# Altium footprint library PCB2.PcbLib: 17 footprints (part 1 of 2)
Each footprint in its own frame and in the unit in brackets; x right, y up, seen from the top. Pads: shape width x height; smd on the part's side, far side on the other; paste and mask are expansions set on the pad; w line width, h text height; cw(c..) or ccw(c..) is an arc to the next point about the centre after c.
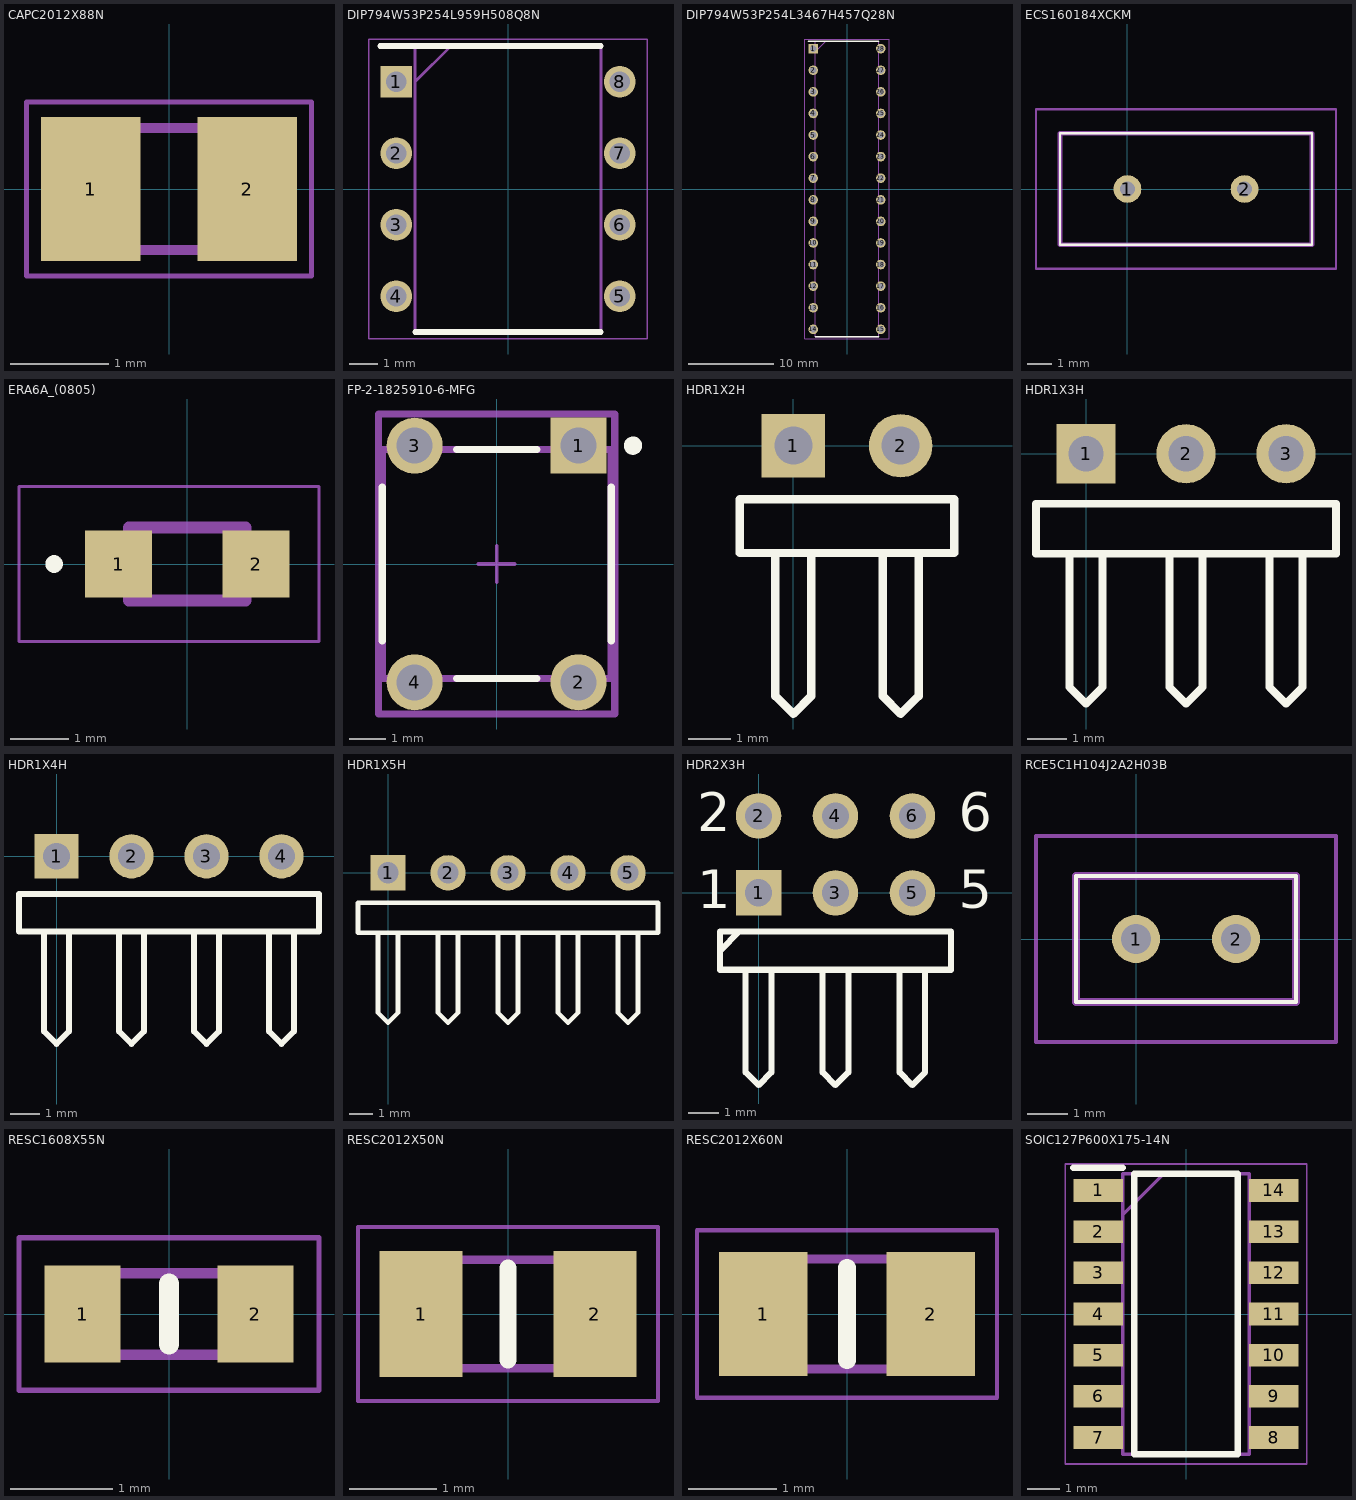
[diagram p0: the footprints below, top view; thin cyan lines are the x and y axes]

## CAPC2012X88N [mm]
pads (2):
  rect 1.02x1.47 smd: 1(-0.8,0) 2(0.8,0)
Mechanical 13:
  lines w0.1: -1,-0.625 -1,0.625 1,0.625 1,-0.625 -1,-0.625
Mechanical 15:
  lines w0.05: -1.46,-0.89 -1.46,0.89 1.46,0.89 1.46,-0.89 -1.46,-0.89
3D body "C0805C104K8RACAUTO.stp": height 0.88, standoff 0, extent -1,-0.625 1,0.625

## DIP794W53P254L959H508Q8N [mm]
pads (8):
  rect 1.13x1.13 hole 0.73: 1(-3.97,3.81)
  round 1.13 hole 0.73: 2(-3.97,1.27) 3(-3.97,-1.27) 4(-3.97,-3.81) 5(3.97,-3.81) 6(3.97,-1.27) 7(3.97,1.27) 8(3.97,3.81)
Top Overlay:
  lines w0.2: -4.535,5.08 3.3,5.08 ; -3.3,-5.08 3.3,-5.08
Mechanical 13:
  lines w0.1: -3.3,3.81 -2.03,5.08 ; -3.3,-5.08 -3.3,5.08 3.3,5.08 3.3,-5.08 -3.3,-5.08
Mechanical 15:
  lines w0.05: -4.945,-5.33 -4.945,5.33 4.945,5.33 4.945,-5.33 -4.945,-5.33
3D body "TL072ACP.stp": height 4.21, standoff -3.37, extent -4.102,-4.635 4.102,4.635

## DIP794W53P254L3467H457Q28N [mm]
pads (28):
  rect 1.133x1.133 hole 0.733: 1(-3.969,16.51)
  round 1.133 hole 0.733: 2(-3.969,13.97) 3(-3.969,11.43) 4(-3.969,8.89) 5(-3.969,6.35) 6(-3.969,3.81) 7(-3.969,1.27) 8(-3.969,-1.27) 9(-3.969,-3.81) 10(-3.969,-6.35) 11(-3.969,-8.89) 12(-3.969,-11.43) 13(-3.969,-13.97) 14(-3.969,-16.51) 15(3.969,-16.51) 16(3.969,-13.97) 17(3.969,-11.43) 18(3.969,-8.89) 19(3.969,-6.35) 20(3.969,-3.81) 21(3.969,-1.27) 22(3.969,1.27) 23(3.969,3.81) 24(3.969,6.35) 25(3.969,8.89) 26(3.969,11.43) 27(3.969,13.97) 28(3.969,16.51)
Top Overlay:
  lines w0.2: -4.535,17.399 3.746,17.399 ; -3.746,-17.399 3.746,-17.399
Mechanical 13:
  lines w0.1: -3.746,16.129 -2.476,17.399 ; -3.746,-17.399 -3.746,17.399 3.746,17.399 3.746,-17.399 -3.746,-17.399
Mechanical 15:
  lines w0.05: -4.944,-17.649 -4.944,17.649 4.944,17.649 4.944,-17.649 -4.944,-17.649
3D body "ATMEGA328P-PN.stp": height 4.57, standoff -3.5, extent -4.102,-17.335 4.102,17.336

## ECS160184XCKM [mm]
pads (2):
  round 1.155 hole 0.63: 1(0,0) 2(4.88,0)
Top Overlay:
  lines w0.1: -2.81,-2.325 -2.81,2.325 7.69,2.325 7.69,-2.325 -2.81,-2.325
Mechanical 13:
  lines w0.2: -2.81,-2.325 -2.81,2.325 7.69,2.325 7.69,-2.325 -2.81,-2.325
Mechanical 15:
  lines w0.1: -3.81,-3.325 -3.81,3.325 8.69,3.325 8.69,-3.325 -3.81,-3.325
3D body "ECS-160-18-4X-CKM.stp": height 3.5, standoff -12.7, extent -3.235,-2.325 8.115,2.325

## ERA6A_(0805) [mm]
pads (2):
  rect 1.15x1.15 smd: 1(-1.175,0) 2(1.175,0)
Top Overlay:
  circle w0.2: c-2.275,0 r0.05
Mechanical 13:
  lines w0.2: -1,-0.625 -1,0.625 1,0.625 1,-0.625 -1,-0.625
Mechanical 15:
  lines w0.05: -2.875,-1.325 -2.875,1.325 2.25,1.325 2.25,-1.325 -2.875,-1.325
3D body "ERA-6ARB1401V.stp": height 0.5, standoff 0, extent -1,-0.625 1,0.625

## FP-2-1825910-6-MFG [mm]
pads (4):
  rect 1.54x1.54 hole 0.99 paste-1000 mask+0: 1(2.25,3.25)
  round 1.54 hole 0.99 paste-1000 mask+0: 2(2.25,-3.25) 3(-2.25,3.25) 4(-2.25,-3.25)
Top Overlay:
  circle w0.25: c3.745,3.25 r0.125
  lines w0.2: -3.145,-2.105 -3.145,2.105 ; -1.105,-3.145 1.105,-3.145 ; -1.105,3.145 1.105,3.145 ; 3.145,-2.105 3.145,2.105
Top 3D Body:
  lines w0.2: -3.145,-3.145 3.145,-3.145 3.145,3.145 -3.145,3.145 -3.145,-3.145
Top Courtyard:
  lines w0.2: -3.245,-4.12 3.245,-4.12 3.245,4.12 -3.245,4.12 -3.245,-4.12
Top Assembly:
  lines w0.2: -3.245,-4.12 3.245,-4.12 3.245,4.12 -3.245,4.12 -3.245,-4.12
  text ".Designator" at 0,0.188 h1
Top Component Center:
  lines w0.1: -0.5,0 0.5,0 ; 0,-0.5 0,0.5
3D body "Switch_TE_Connectivity_2-1825910-6_eec.STEP": height 0.25, standoff 0, extent -3.245,-4.12 3.245,4.12

## HDR1X2H [mm] "Connector; Header; 2 Position; Right Angle"
pads (2):
  rect 1.5x1.5 hole 0.9: 1(0,0)
  round 1.5 hole 0.9: 2(2.54,0)
Top Overlay:
  lines w0.2: -0.423,-2.54 -0.423,-5.927 0,-6.35 0.423,-5.927 0.423,-2.54 ; 2.117,-2.54 2.117,-5.927 2.54,-6.35 2.963,-5.927 2.963,-2.54 ; -1.27,-2.54 3.81,-2.54 3.81,-1.27 -1.27,-1.27 -1.27,-2.54
3D body "User Library-Molex - 2-Pin Header with Lock (0.100in pitch)_Molex - Header Pin.SLDPRT": height 10.16, standoff -4.06, extent -0.381,-0.269 0.279,0.381
3D body "User Library-Molex - 2-Pin Header with Lock (0.100in pitch)_Molex - Header Pin.SLDPRT": height 10.16, standoff -4.06, extent 2.261,-0.381 2.921,0.269
3D body "User Library-Molex - 2-Pin Header with Lock (0.100in pitch)_Molex - Header Base with Lock (0.100in pitch).SLDPRT": height 8.19, standoff 0.01, extent -1.397,-3.175 3.683,3.175

## HDR1X3H [mm] "Connector; Header; 3 Position; Right Angle"
pads (3):
  rect 1.5x1.5 hole 0.9: 1(0,0)
  round 1.5 hole 0.9: 2(2.54,0) 3(5.08,0)
Top Overlay:
  lines w0.2: -0.423,-2.54 -0.423,-5.927 0,-6.35 0.423,-5.927 0.423,-2.54 ; 2.117,-2.54 2.117,-5.927 2.54,-6.35 2.963,-5.927 2.963,-2.54 ; 4.657,-2.54 4.657,-5.927 5.08,-6.35 5.503,-5.927 5.503,-2.54 ; -1.27,-2.54 -1.27,-1.27 6.35,-1.27 6.35,-2.54 -1.27,-2.54
3D body "User Library-Molex - 3-Pin Header with Lock (0_100in pitch).STEP": height 10.18, standoff -4.04, extent -1.143,-2.286 6.477,4.064

## HDR1X4H [mm] "Connector; Header; 4 Position; Right Angle"
pads (4):
  rect 1.5x1.5 hole 0.9: 1(0,0)
  round 1.5 hole 0.9: 2(2.54,0) 3(5.08,0) 4(7.62,0)
Top Overlay:
  lines w0.2: -0.423,-2.54 -0.423,-5.927 0,-6.35 0.423,-5.927 0.423,-2.54 ; 2.117,-2.54 2.117,-5.927 2.54,-6.35 2.963,-5.927 2.963,-2.54 ; 4.657,-2.54 4.657,-5.927 5.08,-6.35 5.503,-5.927 5.503,-2.54 ; 7.197,-2.54 7.197,-5.927 7.62,-6.35 8.043,-5.927 8.043,-2.54 ; -1.27,-2.54 8.89,-2.54 8.89,-1.27 -1.27,-1.27 -1.27,-2.54

## HDR1X5H [mm] "Connector; Header; 5 Position; Right Angle"
pads (5):
  rect 1.5x1.5 hole 0.9: 1(0,0)
  round 1.5 hole 0.9: 2(2.54,0) 3(5.08,0) 4(7.62,0) 5(10.16,0)
Top Overlay:
  lines w0.2: -0.423,-2.54 -0.423,-5.927 0,-6.35 0.423,-5.927 0.423,-2.54 ; 2.117,-2.54 2.117,-5.927 2.54,-6.35 2.963,-5.927 2.963,-2.54 ; 4.657,-2.54 4.657,-5.927 5.08,-6.35 5.503,-5.927 5.503,-2.54 ; 7.197,-2.54 7.197,-5.927 7.62,-6.35 8.043,-5.927 8.043,-2.54 ; 9.737,-2.54 9.737,-5.927 10.16,-6.35 10.583,-5.927 10.583,-2.54 ; -1.27,-2.54 11.43,-2.54 11.43,-1.27 -1.27,-1.27 -1.27,-2.54
3D body "Pluggable Pin Header 5-way.step": height 11.51, standoff -1.99, extent -1.35,-3.225 11.51,3.175

## HDR2X3H [mm] "Connector; Header; 3x2 Position; Right Angle"
pads (6):
  rect 1.5x1.5 hole 0.9: 1(0,0)
  round 1.5 hole 0.9: 2(0,2.54) 3(2.54,0) 4(2.54,2.54) 5(5.08,0) 6(5.08,2.54)
Top Overlay:
  lines w0.2: -1.27,-1.905 -0.635,-1.27 ; -0.423,-2.54 -0.423,-5.927 0,-6.35 0.423,-5.927 0.423,-2.54 ; 2.117,-2.54 2.117,-5.927 2.54,-6.35 2.963,-5.927 2.963,-2.54 ; 4.657,-2.54 4.657,-5.927 5.08,-6.35 5.503,-5.927 5.503,-2.54 ; -1.27,-2.54 -1.27,-1.27 6.35,-1.27 6.35,-2.54 -1.27,-2.54
  text "6" at 6.604,2.032 h1.27
  text "5" at 6.604,-0.508 h1.27
  text "1" at -2.032,-0.508 h1.27
  text "2" at -2.032,2.032 h1.27
3D body "a3c-6p-2dsa.stp": height 4.01, standoff -2.99, extent -0.401,-0.692 5.599,3.308

## RCE5C1H104J2A2H03B [mm]
pads (2):
  round 1.2 hole 0.75: 1(0,0) 2(2.5,0)
Top Overlay:
  lines w0.1: -1.5,-1.575 4,-1.575 4,1.575 -1.5,1.575 -1.5,-1.575
Mechanical 13:
  lines w0.2: -1.5,-1.575 4,-1.575 4,1.575 -1.5,1.575 -1.5,-1.575
Mechanical 15:
  lines w0.1: -2.5,-2.575 5,-2.575 5,2.575 -2.5,2.575 -2.5,-2.575
3D body "RDE5C2J220J2M1H03A.stp": height 4.5, standoff -24.5, extent -1.5,-1.5 4,1.65

## RESC1608X55N [mm]
pads (2):
  rect 0.75x0.95 smd: 1(-0.85,0) 2(0.85,0)
Top Overlay:
  lines w0.2: 0,-0.3 0,0.3
Mechanical 13:
  lines w0.1: -0.8,-0.4 0.8,-0.4 0.8,0.4 -0.8,0.4 -0.8,-0.4
Mechanical 15:
  lines w0.05: -1.475,-0.75 1.475,-0.75 1.475,0.75 -1.475,0.75 -1.475,-0.75
3D body "SDR03EZPF1001.stp": height 0.55, standoff 0, extent -0.8,-0.4 0.8,0.4

## RESC2012X50N [mm]
pads (2):
  rect 0.95x1.45 smd: 1(-1,0) 2(1,0)
Top Overlay:
  lines w0.2: 0,-0.525 0,0.525
Mechanical 13:
  lines w0.1: -1.025,-0.625 1.025,-0.625 1.025,0.625 -1.025,0.625 -1.025,-0.625
Mechanical 15:
  lines w0.05: -1.725,-1 1.725,-1 1.725,1 -1.725,1 -1.725,-1
3D body "CRCW08052K00FKEBC.stp": height 0.5, standoff 0, extent -1.025,-0.625 1.025,0.625

## RESC2012X60N [mm]
pads (2):
  rect 1x1.4 smd: 1(-0.95,0) 2(0.95,0)
Top Overlay:
  lines w0.2: 0,-0.525 0,0.525
Mechanical 13:
  lines w0.1: -1,-0.625 1,-0.625 1,0.625 -1,0.625 -1,-0.625
Mechanical 15:
  lines w0.05: -1.7,-0.95 1.7,-0.95 1.7,0.95 -1.7,0.95 -1.7,-0.95
3D body "CHP0805-FX-1002ELF.stp": height 0.6, standoff 0, extent -1,-0.625 1,0.625

## SOIC127P600X175-14N [mm]
pads (14):
  rect 1.525x0.7 smd: 1(-2.712,3.81) 2(-2.712,2.54) 3(-2.712,1.27) 4(-2.712,0) 5(-2.712,-1.27) 6(-2.712,-2.54) 7(-2.712,-3.81) 8(2.712,-3.81) 9(2.712,-2.54) 10(2.712,-1.27) 11(2.712,0) 12(2.712,1.27) 13(2.712,2.54) 14(2.712,3.81)
Top Overlay:
  lines w0.2: -3.475,4.51 -1.95,4.51 ; -1.6,-4.325 1.6,-4.325 1.6,4.325 -1.6,4.325 -1.6,-4.325
Mechanical 13:
  lines w0.1: -1.95,3.055 -0.68,4.325 ; -1.95,-4.325 1.95,-4.325 1.95,4.325 -1.95,4.325 -1.95,-4.325
Mechanical 15:
  lines w0.05: -3.725,-4.625 3.725,-4.625 3.725,4.625 -3.725,4.625 -3.725,-4.625
3D body "LM324WDT.stp": height 1.75, standoff 0, extent -3,-4.325 3,4.325